# Altium footprint library Derek_2020_08_26.PcbLib: 40 footprints (part 1 of 3)
Each footprint in its own frame and in the unit in brackets; x right, y up, seen from the top. Pads: shape width x height; smd on the part's side, far side on the other; paste and mask are expansions set on the pad; w line width, h text height; cw(c..) or ccw(c..) is an arc to the next point about the centre after c.
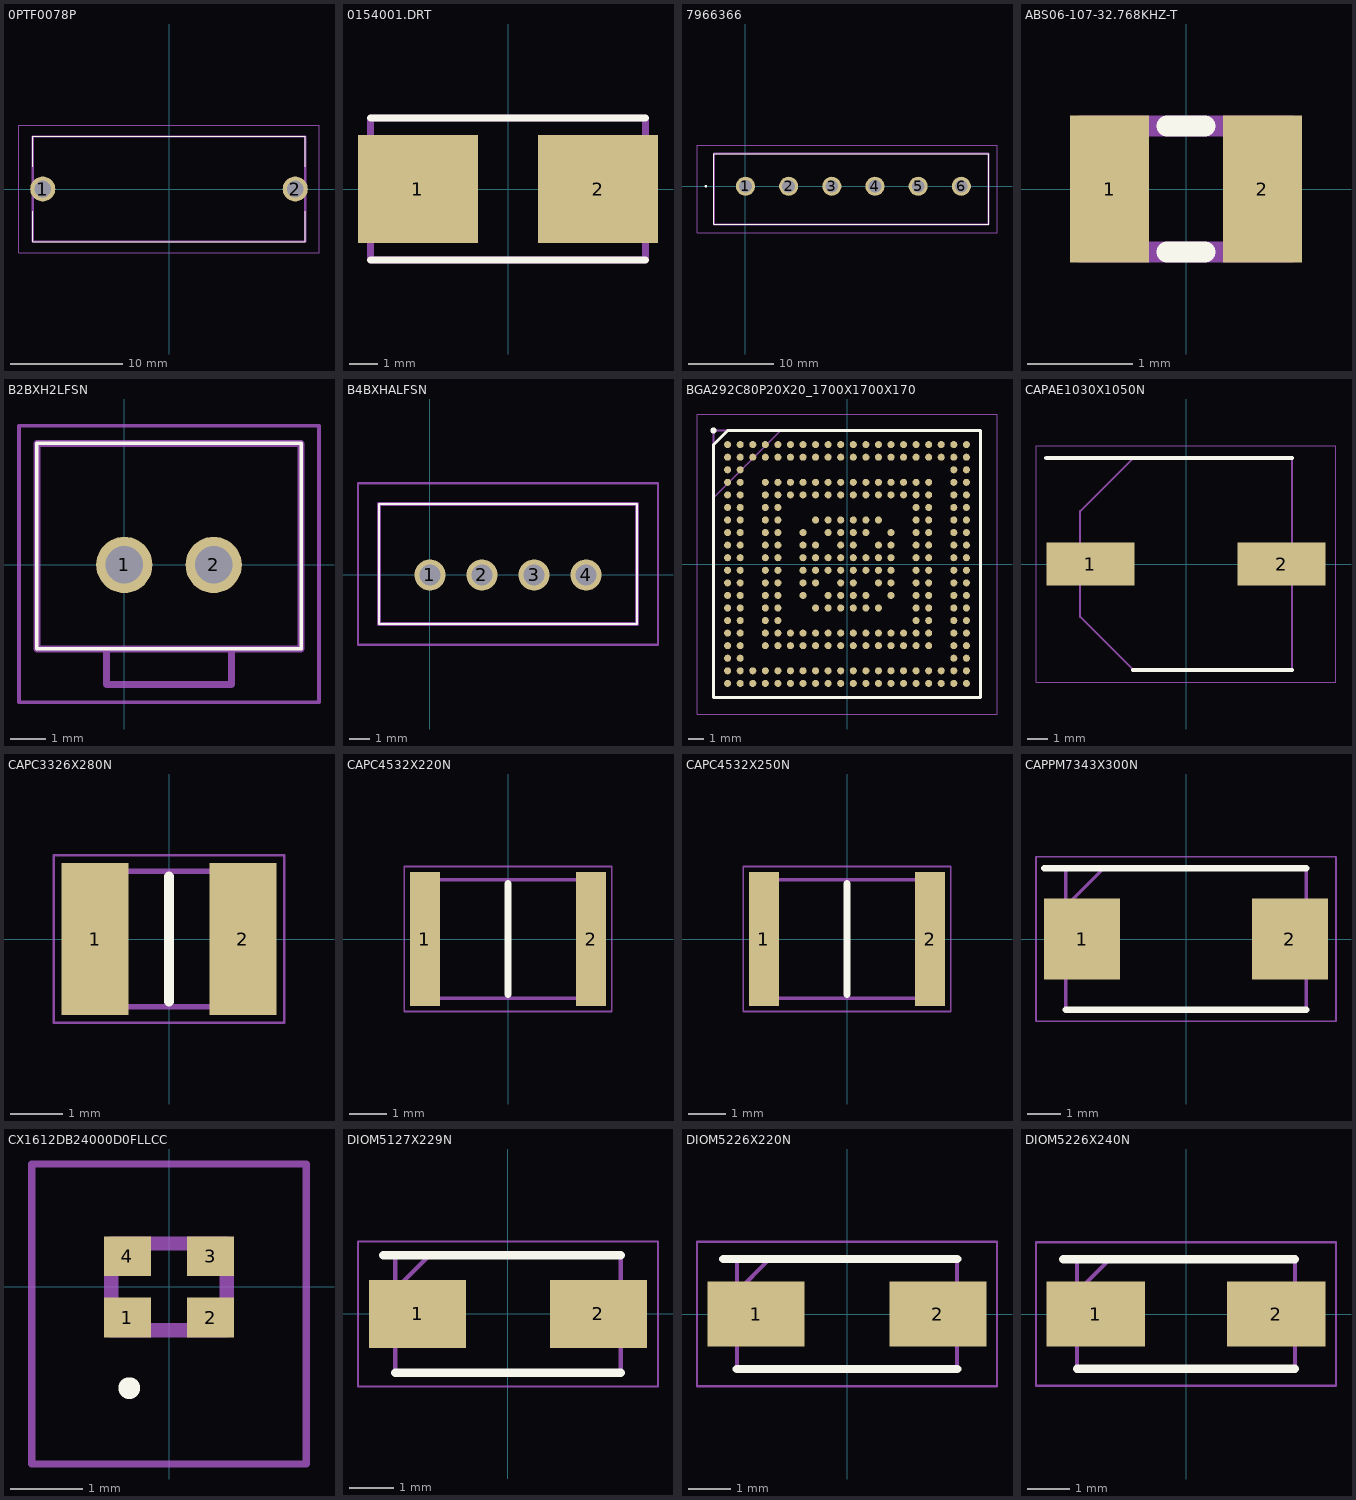
[diagram p0: the footprints below, top view; thin cyan lines are the x and y axes]

## 0PTF0078P [mm]
pads (2):
  round 2.25 hole 1.5: 1(-11.3,0) 2(11.3,0)
Top Overlay:
  lines w0.1: -12.2,-2 -12.2,-4.7 12.2,-4.7 12.2,-2 ; -12.2,2 -12.2,4.7 12.2,4.7 12.2,2
Mechanical 13:
  lines w0.2: -12.2,-4.7 12.2,-4.7 12.2,4.7 -12.2,4.7 -12.2,-4.7
Mechanical 15:
  lines w0.1: -13.425,-5.7 13.425,-5.7 13.425,5.7 -13.425,5.7 -13.425,-5.7
3D body "0PTF0078P.stp": height 11.6, standoff -5, extent -12.2,-4.7 12.2,4.7

## 0154001.DRT [mil]
pads (2):
  rect 167x150 smd: 1(-125.5,0) 2(125.5,0)
Top Overlay:
  lines w10: -191.5,-99 191.5,-99 ; -191.5,99 191.5,99
Mechanical 13:
  lines w10: -191.5,-99 191.5,-99 191.5,99 -191.5,99 -191.5,-99

## 7966366 [mm]
pads (6):
  round 2.25 hole 1.5: 1(0,0) 2(5.08,0) 3(10.16,0) 4(15.24,0) 5(20.32,0) 6(25.4,0)
Top Overlay:
  lines w0.1: -3.7,-4.5 -3.7,3.85 28.6,3.85 28.6,-4.5 -3.7,-4.5
  lines w0.2: -4.7,0 ccw(c-4.65,0) -4.6,0 ; -4.7,0 cw(c-4.65,0) -4.6,0 ; -4.7,0 ccw(c-4.65,0) -4.6,0
Mechanical 13:
  lines w0.2: -3.7,-4.5 -3.7,3.85 28.6,3.85 28.6,-4.5 -3.7,-4.5
Mechanical 15:
  lines w0.1: -5.7,-5.5 -5.7,4.85 29.6,4.85 29.6,-5.5 -5.7,-5.5
3D body "796636-6.stp": height 12.1, standoff -5, extent -3.7,-4.5 28.6,3.85

## ABS06-107-32.768KHZ-T [mm]
pads (2):
  rect 0.75x1.4 smd: 1(-0.725,0) 2(0.725,0)
Top Overlay:
  lines w0.2: -0.18,-0.6 0.18,-0.6 ; -0.18,0.6 0.18,0.6
Mechanical 13:
  lines w0.2: -1,-0.6 1,-0.6 1,0.6 -1,0.6 -1,-0.6

## B2BXH2LFSN [mm]
pads (2):
  round 1.575 hole 1.05: 1(0,0) 2(2.5,0)
Top Overlay:
  lines w0.1: -2.45,-2.35 -2.45,3.4 4.95,3.4 4.95,-2.35 -2.45,-2.35
Mechanical 13:
  lines w0.2: -2.45,-2.35 -2.45,3.4 4.95,3.4 4.95,-2.35 -2.45,-2.35 ; -0.5,-3.35 -0.5,-2.35 3,-2.35 3,-3.35 -0.5,-3.35
Mechanical 15:
  lines w0.1: -2.95,-3.85 -2.95,3.9 5.45,3.9 5.45,-3.85 -2.95,-3.85
3D body "B2B-XH-2__LF__SN_.stp": height 7.1, standoff -5, extent -2.45,-3.35 4.95,3.4

## B4BXHALFSN [mm]
pads (4):
  round 1.5 hole 1: 1(0,0) 2(2.5,0) 3(5,0) 4(7.5,0)
Top Overlay:
  lines w0.1: -2.45,-2.35 -2.45,3.4 9.95,3.4 9.95,-2.35 -2.45,-2.35
Mechanical 13:
  lines w0.2: -2.45,-2.35 -2.45,3.4 9.95,3.4 9.95,-2.35 -2.45,-2.35
Mechanical 15:
  lines w0.1: -3.45,-3.35 -3.45,4.4 10.95,4.4 10.95,-3.35 -3.45,-3.35
3D body "B4B-XH-A_LF__SN_.stp": height 7.1, standoff -5, extent -2.45,-2.35 9.95,3.4

## BGA292C80P20X20_1700X1700X170 [mm]
pads (292):
  round 0.45 smd: A1(-7.6,7.6) A2(-6.8,7.6) A3(-6,7.6) A4(-5.2,7.6) A5(-4.4,7.6) A6(-3.6,7.6) A7(-2.8,7.6) A8(-2,7.6) A9(-1.2,7.6) A10(-0.4,7.6) A11(0.4,7.6) A12(1.2,7.6) A13(2,7.6) A14(2.8,7.6) A15(3.6,7.6) A16(4.4,7.6) A17(5.2,7.6) A18(6,7.6) A19(6.8,7.6) A20(7.6,7.6) B1(-7.6,6.8) B2(-6.8,6.8) B3(-6,6.8) B4(-5.2,6.8) B5(-4.4,6.8) B6(-3.6,6.8) B7(-2.8,6.8) B8(-2,6.8) B9(-1.2,6.8) B10(-0.4,6.8) B11(0.4,6.8) B12(1.2,6.8) B13(2,6.8) B14(2.8,6.8) B15(3.6,6.8) B16(4.4,6.8) B17(5.2,6.8) B18(6,6.8) B19(6.8,6.8) B20(7.6,6.8) C1(-7.6,6) C2(-6.8,6) C19(6.8,6) C20(7.6,6) D1(-7.6,5.2) D2(-6.8,5.2) D4(-5.2,5.2) D5(-4.4,5.2) D6(-3.6,5.2) D7(-2.8,5.2) D8(-2,5.2) D9(-1.2,5.2) D10(-0.4,5.2) D11(0.4,5.2) D12(1.2,5.2) D13(2,5.2) D14(2.8,5.2) D15(3.6,5.2) D16(4.4,5.2) D17(5.2,5.2) D19(6.8,5.2) D20(7.6,5.2) E1(-7.6,4.4) E2(-6.8,4.4) E4(-5.2,4.4) E5(-4.4,4.4) E6(-3.6,4.4) E7(-2.8,4.4) E8(-2,4.4) E9(-1.2,4.4) E10(-0.4,4.4) E11(0.4,4.4) E12(1.2,4.4) E13(2,4.4) E14(2.8,4.4) E15(3.6,4.4) E16(4.4,4.4) E17(5.2,4.4) E19(6.8,4.4) E20(7.6,4.4) F1(-7.6,3.6) F2(-6.8,3.6) F4(-5.2,3.6) F5(-4.4,3.6) F16(4.4,3.6) F17(5.2,3.6) F19(6.8,3.6) F20(7.6,3.6) G1(-7.6,2.8) G2(-6.8,2.8) G4(-5.2,2.8) G5(-4.4,2.8) G8(-2,2.8) G9(-1.2,2.8) G10(-0.4,2.8) G11(0.4,2.8) G12(1.2,2.8) G13(2,2.8) G16(4.4,2.8) G17(5.2,2.8) G19(6.8,2.8) G20(7.6,2.8) H1(-7.6,2) H2(-6.8,2) H4(-5.2,2) H5(-4.4,2) H7(-2.8,2) H9(-1.2,2) H10(-0.4,2) H11(0.4,2) H12(1.2,2) H14(2.8,2) H16(4.4,2) H17(5.2,2) H19(6.8,2) H20(7.6,2) J1(-7.6,1.2) J2(-6.8,1.2) J4(-5.2,1.2) J5(-4.4,1.2) J7(-2.8,1.2) J8(-2,1.2) J10(-0.4,1.2) J11(0.4,1.2) J13(2,1.2) J14(2.8,1.2) J16(4.4,1.2) J17(5.2,1.2) J19(6.8,1.2) J20(7.6,1.2) K1(-7.6,0.4) K2(-6.8,0.4) K4(-5.2,0.4) K5(-4.4,0.4) K7(-2.8,0.4) K8(-2,0.4) K9(-1.2,0.4) K10(-0.4,0.4) K11(0.4,0.4) K12(1.2,0.4) K13(2,0.4) K14(2.8,0.4) K16(4.4,0.4) K17(5.2,0.4) K19(6.8,0.4) K20(7.6,0.4) L1(-7.6,-0.4) L2(-6.8,-0.4) L4(-5.2,-0.4) L5(-4.4,-0.4) L7(-2.8,-0.4) L8(-2,-0.4) L9(-1.2,-0.4) L10(-0.4,-0.4) L11(0.4,-0.4) L12(1.2,-0.4) L13(2,-0.4) L14(2.8,-0.4) L16(4.4,-0.4) L17(5.2,-0.4) L19(6.8,-0.4) L20(7.6,-0.4) M1(-7.6,-1.2) M2(-6.8,-1.2) M4(-5.2,-1.2) M5(-4.4,-1.2) M7(-2.8,-1.2) M8(-2,-1.2) M10(-0.4,-1.2) M11(0.4,-1.2) M13(2,-1.2) M14(2.8,-1.2) M16(4.4,-1.2) M17(5.2,-1.2) M19(6.8,-1.2) M20(7.6,-1.2) N1(-7.6,-2) N2(-6.8,-2) N4(-5.2,-2) N5(-4.4,-2) N7(-2.8,-2) N9(-1.2,-2) N10(-0.4,-2) N11(0.4,-2) N12(1.2,-2) N14(2.8,-2) N16(4.4,-2) N17(5.2,-2) N19(6.8,-2) N20(7.6,-2) P1(-7.6,-2.8) P2(-6.8,-2.8) P4(-5.2,-2.8) P5(-4.4,-2.8) P8(-2,-2.8) P9(-1.2,-2.8) P10(-0.4,-2.8) P11(0.4,-2.8) P12(1.2,-2.8) P13(2,-2.8) P16(4.4,-2.8) P17(5.2,-2.8) P19(6.8,-2.8) P20(7.6,-2.8) R1(-7.6,-3.6) R2(-6.8,-3.6) R4(-5.2,-3.6) R5(-4.4,-3.6) R16(4.4,-3.6) R17(5.2,-3.6) R19(6.8,-3.6) R20(7.6,-3.6) T1(-7.6,-4.4) T2(-6.8,-4.4) T4(-5.2,-4.4) T5(-4.4,-4.4) T6(-3.6,-4.4) T7(-2.8,-4.4) T8(-2,-4.4) T9(-1.2,-4.4) T10(-0.4,-4.4) T11(0.4,-4.4) T12(1.2,-4.4) T13(2,-4.4) T14(2.8,-4.4) T15(3.6,-4.4) T16(4.4,-4.4) T17(5.2,-4.4) T19(6.8,-4.4) T20(7.6,-4.4) U1(-7.6,-5.2) U2(-6.8,-5.2) U4(-5.2,-5.2) U5(-4.4,-5.2) U6(-3.6,-5.2) U7(-2.8,-5.2) U8(-2,-5.2) U9(-1.2,-5.2) U10(-0.4,-5.2) U11(0.4,-5.2) U12(1.2,-5.2) U13(2,-5.2) U14(2.8,-5.2) U15(3.6,-5.2) U16(4.4,-5.2) U17(5.2,-5.2) U19(6.8,-5.2) U20(7.6,-5.2) V1(-7.6,-6) V2(-6.8,-6) V19(6.8,-6) V20(7.6,-6) W1(-7.6,-6.8) W2(-6.8,-6.8) W3(-6,-6.8) W4(-5.2,-6.8) W5(-4.4,-6.8) W6(-3.6,-6.8) W7(-2.8,-6.8) W8(-2,-6.8) W9(-1.2,-6.8) W10(-0.4,-6.8) W11(0.4,-6.8) W12(1.2,-6.8) W13(2,-6.8) W14(2.8,-6.8) W15(3.6,-6.8) W16(4.4,-6.8) W17(5.2,-6.8) W18(6,-6.8) W19(6.8,-6.8) W20(7.6,-6.8) Y1(-7.6,-7.6) Y2(-6.8,-7.6) Y3(-6,-7.6) Y4(-5.2,-7.6) Y5(-4.4,-7.6) Y6(-3.6,-7.6) Y7(-2.8,-7.6) Y8(-2,-7.6) Y9(-1.2,-7.6) Y10(-0.4,-7.6) Y11(0.4,-7.6) Y12(1.2,-7.6) Y13(2,-7.6) Y14(2.8,-7.6) Y15(3.6,-7.6) Y16(4.4,-7.6) Y17(5.2,-7.6) Y18(6,-7.6) Y19(6.8,-7.6) Y20(7.6,-7.6)
Top Overlay:
  circle w0.2: c-8.5,8.5 r0.1
  lines w0.2: -8.5,-8.5 -8.5,7.6 -7.6,8.5 8.5,8.5 8.5,-8.5 -8.5,-8.5
Mechanical 13:
  lines w0.1: -8.5,4.225 -4.225,8.5 ; -8.5,-8.5 -8.5,8.5 8.5,8.5 8.5,-8.5 -8.5,-8.5
Mechanical 15:
  lines w0.05: -9.55,-9.55 -9.55,9.55 9.55,9.55 9.55,-9.55 -9.55,-9.55
3D body "TC297TP128F300NBCKXUMA1.stp": height 1.7, standoff 0, extent -8.5,-8.5 8.5,8.5

## CAPAE1030X1050N [mm]
pads (2):
  rect 4.3x2.1 smd: 1(-4.65,0) 2(4.65,0)
Top Overlay:
  lines w0.2: -6.8,5.15 5.15,5.15 ; -2.575,-5.15 5.15,-5.15
Mechanical 13:
  lines w0.1: -5.15,-2.575 -2.575,-5.15 5.15,-5.15 5.15,5.15 -2.575,5.15 -5.15,2.575 -5.15,-2.575
Mechanical 15:
  lines w0.05: -7.3,-5.75 -7.3,5.75 7.3,5.75 7.3,-5.75 -7.3,-5.75
3D body "EEEFC1E221AP.stp": height 10.5, standoff 0, extent -6,-5.25 6,5.25

## CAPC3326X280N [mm]
pads (2):
  rect 1.28x2.92 smd: 1(-1.42,0) 2(1.42,0)
Top Overlay:
  lines w0.2: 0,-1.2 0,1.2
Mechanical 13:
  lines w0.1: -1.65,-1.3 -1.65,1.3 1.65,1.3 1.65,-1.3 -1.65,-1.3
Mechanical 15:
  lines w0.05: -2.21,-1.61 -2.21,1.61 2.21,1.61 2.21,-1.61 -2.21,-1.61
3D body "C1210X106K3RACTU.stp": height 2.8, standoff 0, extent -1.65,-1.3 1.65,1.3

## CAPC4532X220N [mm]
pads (2):
  rect 0.81x3.61 smd: 1(-2.25,0) 2(2.25,0)
Top Overlay:
  lines w0.2: 0,-1.5 0,1.5
Mechanical 13:
  lines w0.1: -2.25,-1.6 -2.25,1.6 2.25,1.6 2.25,-1.6 -2.25,-1.6
Mechanical 15:
  lines w0.05: -2.805,-1.96 -2.805,1.96 2.805,1.96 2.805,-1.96 -2.805,-1.96
3D body "CGA8M3X7R1H475K200KB.stp": height 2.18, standoff 0.02, extent -2.05,-1.568 2.05,1.568

## CAPC4532X250N [mm]
pads (2):
  rect 0.81x3.61 smd: 1(-2.25,0) 2(2.25,0)
Top Overlay:
  lines w0.2: 0,-1.5 0,1.5
Mechanical 13:
  lines w0.1: -2.25,-1.6 2.25,-1.6 2.25,1.6 -2.25,1.6 -2.25,-1.6
Mechanical 15:
  lines w0.05: -2.805,-1.96 2.805,-1.96 2.805,1.96 -2.805,1.96 -2.805,-1.96
3D body "CGA8N3X7S2A475M230KB.stp": height 2.47, standoff 0.03, extent -2.05,-1.568 2.05,1.568

## CAPPM7343X300N [mm]
pads (2):
  rect 2.3x2.45 smd: 1(-3.15,0) 2(3.15,0)
Top Overlay:
  lines w0.2: -4.3,2.15 3.65,2.15 ; -3.65,-2.15 3.65,-2.15
Mechanical 13:
  lines w0.1: -3.65,1 -2.5,2.15 ; -3.65,-2.15 -3.65,2.15 3.65,2.15 3.65,-2.15 -3.65,-2.15
Mechanical 15:
  lines w0.05: -4.55,-2.5 -4.55,2.5 4.55,2.5 4.55,-2.5 -4.55,-2.5
3D body "10TPB220ML.stp": height 3, standoff 0, extent -3.65,-2.15 3.65,2.15

## CX1612DB24000D0FLLCC [mm]
pads (4):
  rect 0.65x0.55 smd: 1(-0.575,-0.425) 2(0.575,-0.425) 3(0.575,0.425) 4(-0.575,0.425)
Top Overlay:
  lines w0.2: -0.6,-1.4 ccw(c-0.55,-1.4) -0.5,-1.4 ; -0.6,-1.4 cw(c-0.55,-1.4) -0.5,-1.4 ; -0.6,-1.4 ccw(c-0.55,-1.4) -0.5,-1.4
Mechanical 13:
  lines w0.2: -0.8,-0.6 -0.8,0.6 0.8,0.6 0.8,-0.6 -0.8,-0.6
Mechanical 15:
  lines w0.1: -1.9,-2.45 -1.9,1.7 1.9,1.7 1.9,-2.45 -1.9,-2.45
3D body "CX1612DB24000D0FLLCC.stp": height 0.5, standoff 0, extent -0.845,-0.645 0.845,0.645

## DIOM5127X229N [mm]
pads (2):
  rect 2.2x1.55 smd: 1(-2.05,0) 2(2.05,0)
Top Overlay:
  lines w0.2: -2.825,1.332 2.552,1.332 ; -2.552,-1.332 2.552,-1.332
Mechanical 13:
  lines w0.1: -2.552,0.558 -1.778,1.332 ; -2.552,-1.332 -2.552,1.332 2.552,1.332 2.552,-1.332 -2.552,-1.332
Mechanical 15:
  lines w0.05: -3.4,-1.645 -3.4,1.645 3.4,1.645 3.4,-1.645 -3.4,-1.645
3D body "SMAJ14A.stp": height 2.29, standoff 0, extent -2.552,-1.332 2.552,1.332

## DIOM5226X220N [mm]
pads (2):
  rect 2.3x1.55 smd: 1(-2.15,0) 2(2.15,0)
Top Overlay:
  lines w0.2: -2.925,1.302 2.605,1.302 ; -2.605,-1.302 2.605,-1.302
Mechanical 13:
  lines w0.1: -2.605,0.528 -1.83,1.302 ; -2.605,-1.302 -2.605,1.302 2.605,1.302 2.605,-1.302 -2.605,-1.302
Mechanical 15:
  lines w0.05: -3.55,-1.71 -3.55,1.71 3.55,1.71 3.55,-1.71 -3.55,-1.71
3D body "1SMA5928BT3G.stp": height 2.2, standoff 0, extent -2.605,-1.302 2.605,1.302

## DIOM5226X240N [mm]
pads (2):
  rect 2.35x1.55 smd: 1(-2.15,0) 2(2.15,0)
Top Overlay:
  lines w0.2: -2.925,1.302 2.598,1.302 ; -2.598,-1.302 2.598,-1.302
Mechanical 13:
  lines w0.1: -2.598,0.528 -1.822,1.302 ; -2.598,-1.302 -2.598,1.302 2.598,1.302 2.598,-1.302 -2.598,-1.302
Mechanical 15:
  lines w0.05: -3.575,-1.71 -3.575,1.71 3.575,1.71 3.575,-1.71 -3.575,-1.71
3D body "B340A-13-F.stp": height 2.4, standoff 0, extent -2.598,-1.302 2.598,1.302